# EAGLE library part EZG-?-307 (library con-lemo)
LEMO Connector Source: http://www.lemo.com/pdfs/catalog/ROW/German/unipole_multipole.pdf
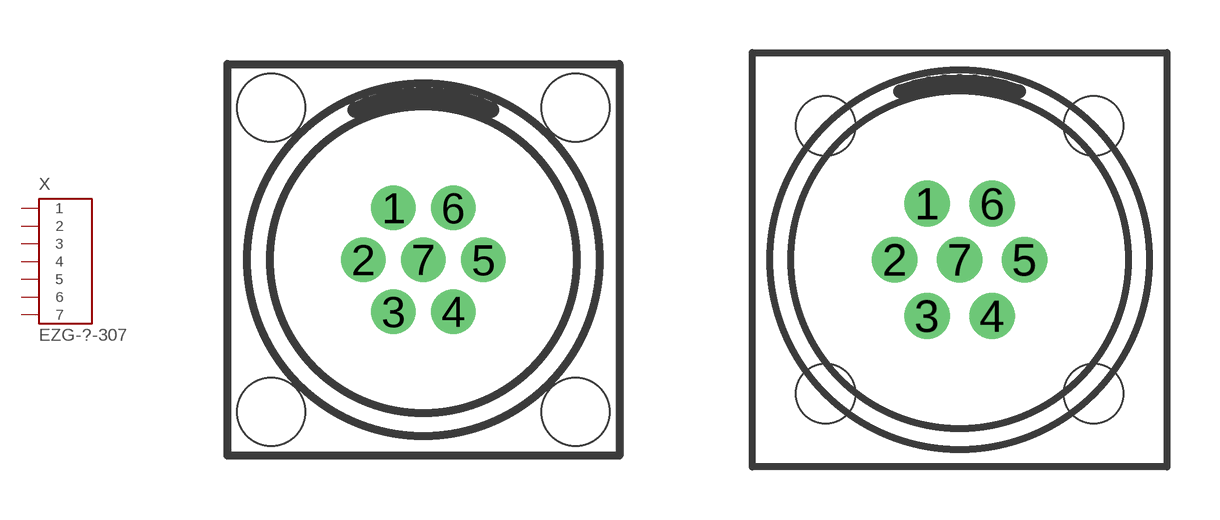
[diagram p6: symbol with the pads of EZG-0B-0K-307; footprints EZG-0B-0K-307, EZG-1B-1K-307]

Designator prefix X

## EZG-0B-307 (OC_FARNELL: unknown; OC_NEWARK: unknown)  [EZG-0B-0K-307]
1  1  pas
2  2  pas
3  3  pas
4  4  pas
5  5  pas
6  6  pas
7  7  pas

## EZG-0K-307 (OC_FARNELL: unknown; OC_NEWARK: unknown)  [EZG-0B-0K-307]
Pads as for EZG-0B-0K-307

## EZG-1B-307 (OC_FARNELL: unknown; OC_NEWARK: unknown)  [EZG-1B-1K-307]
Pads as for EZG-0B-0K-307

## EZG-1K-307 (OC_FARNELL: unknown; OC_NEWARK: unknown)  [EZG-1B-1K-307]
Pads as for EZG-0B-0K-307

## EZG-2B-307 (OC_FARNELL: unknown; OC_NEWARK: unknown)  [EZG-2B-2K-307]
Pads as for EZG-0B-0K-307

## EZG-2K-307 (OC_FARNELL: unknown; OC_NEWARK: unknown)  [EZG-2B-2K-307]
Pads as for EZG-0B-0K-307

## Footprint EZG-0B-0K-307 (pad centres in mm)
LEMO Connector Source: http://www.lemo.com/pdfs/catalog/ROW/German/unipole_multipole.pdf
drill 0.6 pad 1.1: 1 -0.75,1.299; 2 -1.5,0; 3 -0.75,-1.299; 4 0.75,-1.299; 5 1.5,0; 6 0.75,1.299; 7 0,0
hole 1.7 at -3.81,3.81
hole 1.7 at 3.81,3.81
hole 1.7 at 3.81,-3.81
hole 1.7 at -3.81,-3.81

## Footprint EZG-1B-1K-307 (pad centres in mm)
LEMO Connector Source: http://www.lemo.com/pdfs/catalog/ROW/German/unipole_multipole.pdf
drill 0.8 pad 1.3: 1 -0.925,1.602; 2 -1.85,0; 3 -0.925,-1.602; 4 0.925,-1.602; 5 1.85,0; 6 0.925,1.602; 7 0,0
hole 1.7 at -3.81,3.81
hole 1.7 at 3.81,3.81
hole 1.7 at 3.81,-3.81
hole 1.7 at -3.81,-3.81

## Footprint EZG-2B-2K-307 (pad centres in mm)
LEMO Connector Source: http://www.lemo.com/pdfs/catalog/ROW/German/unipole_multipole.pdf
drill 0.8 pad 1.3: 1 -1.45,2.511; 2 -2.9,0; 3 -1.45,-2.511; 4 1.45,-2.511; 5 2.9,0; 6 1.45,2.511; 7 0,0
hole 1.7 at -5.08,5.08
hole 1.7 at 5.08,5.08
hole 1.7 at 5.08,-5.08
hole 1.7 at -5.08,-5.08